# EAGLE library part VEML6070 (library VEML6070)
VEML6070 is an advanced ultraviolet (UV) light sensor with I2C protocol interface and designed by the CMOS process.
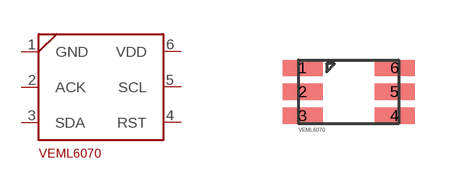
[diagram p0: symbol with the pads of VEML6070; footprint VEML6070]

Designator prefix -

## VEML6070  [VEML6070]
1  GND
2  ACK
3  SDA
4  RST
5  SCL
6  VDD

## Footprint VEML6070 (pad centres in mm)
smd 1 x 0.4: 1 0,1.2; 2 0,0.6; 3 0,0; 4 2.3,0; 5 2.3,0.6; 6 2.3,1.2